# EAGLE library part TDA8752 (library kamiki)
Triple high speed Analog-to-Digital Converter
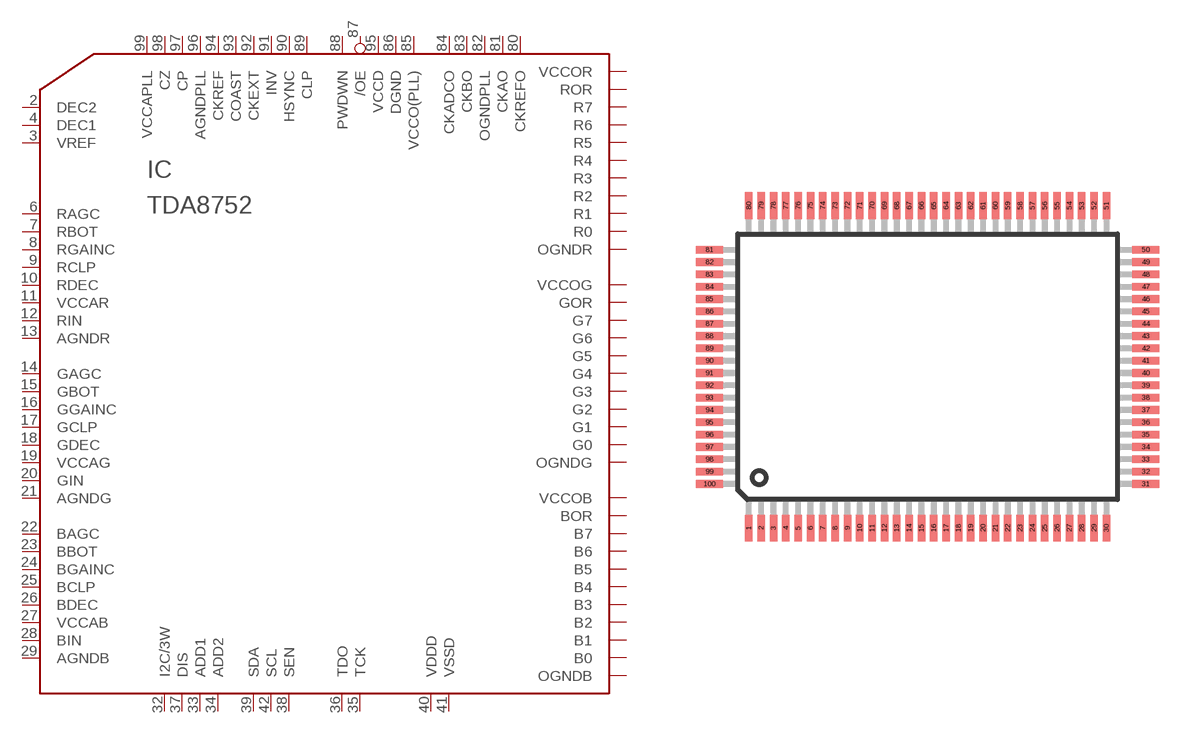
[diagram p28: symbol with the pads of QFP100_SOT317; footprint QFP100_SOT317]

Designator prefix IC

## TDA8752  [QFP100_SOT317]
2  DEC2  pas
3  VREF  in
4  DEC1  pas
6  RAGC  out
7  RBOT  pas
8  RGAINC  pas
9  RCLP  pas
10  RDEC  pas
11  VCCAR  pwr
12  RIN  in
13  AGNDR  pwr
14  GAGC  out
15  GBOT  pas
16  GGAINC  pas
17  GCLP  pas
18  GDEC  pas
19  VCCAG  pwr
20  GIN  in
21  AGNDG  pwr
22  BAGC  out
23  BBOT  pas
24  BGAINC  pas
25  BCLP  pas
26  BDEC  pas
27  VCCAB  pwr
28  BIN  in
29  AGNDB  pwr
32  I2C/3W  in
33  ADD1  in
34  ADD2  in
35  TCK  in
36  TDO  in
37  DIS  in
38  SEN  in
39  SDA  pas
40  VDDD  pwr
41  VSSD  pwr
42  SCL  pas
45  ROR  out
46  GOR  out
47  BOR  out
48  OGNDB  pwr
49  B0  out
52  B1  out
53  B2  out
54  B3  out
55  B4  out
56  B5  out
57  B6  out
58  B7  out
59  VCCOB  pwr
60  OGNDG  pwr
61  G0  out
62  G1  out
63  G2  out
64  G3  out
65  G4  out
66  G5  out
67  G6  out
68  G7  out
69  VCCOG  pwr
70  OGNDR  pwr
71  R0  out
72  R1  out
73  R2  out
74  R3  out
75  R4  out
76  R5  out
77  R6  out
78  R7  out
79  VCCOR  pwr
80  CKREFO  out
81  CKAO  out
82  OGNDPLL  pwr
83  CKBO  out
84  CKADCO  out
85  VCCO(PLL)  pwr
86  DGND  pwr
87  /OE  in
88  PWDWN  in
89  CLP  in
90  HSYNC  in
91  INV  in
92  CKEXT  in
93  COAST  in
94  CKREF  in
95  VCCD  pwr
96  AGNDPLL  pwr
97  CP  pas
98  CZ  pas
99  VCCAPLL  pwr

## Footprint QFP100_SOT317 (pad centres in mm)
Plastic Quad Flat Package SOT317-1/-2/-3 SOT382-2 100 leads source: http://www.semiconductors.philips.com/ LQFP-MSQFP-QFP-SQFP-TQFP-REFLOW.pdf
smd 0.4 x 1.4: 1 -9.425,-8.5; 2 -8.775,-8.5; 3 -8.125,-8.5; 4 -7.475,-8.5; 5 -6.825,-8.5; 6 -6.175,-8.5; 7 -5.525,-8.5; 8 -4.875,-8.5; 9 -4.225,-8.5; 10 -3.575,-8.5; 11 -2.925,-8.5; 12 -2.275,-8.5; 13 -1.625,-8.5; 14 -0.975,-8.5; 15 -0.325,-8.5; 16 0.325,-8.5; 17 0.975,-8.5; 18 1.625,-8.5; 19 2.275,-8.5; 20 2.925,-8.5; 21 3.575,-8.5; 22 4.225,-8.5; 23 4.875,-8.5; 24 5.525,-8.5; 25 6.175,-8.5; 26 6.825,-8.5; 27 7.475,-8.5; 28 8.125,-8.5; 29 8.775,-8.5; 30 9.425,-8.5; 51 9.425,8.5; 52 8.775,8.5; 53 8.125,8.5; 54 7.475,8.5; 55 6.825,8.5; 56 6.175,8.5; 57 5.525,8.5; 58 4.875,8.5; 59 4.225,8.5; 60 3.575,8.5; 61 2.925,8.5; 62 2.275,8.5; 63 1.625,8.5; 64 0.975,8.5; 65 0.325,8.5; 66 -0.325,8.5; 67 -0.975,8.5; 68 -1.625,8.5; 69 -2.275,8.5; 70 -2.925,8.5; 71 -3.575,8.5; 72 -4.225,8.5; 73 -4.875,8.5; 74 -5.525,8.5; 75 -6.175,8.5; 76 -6.825,8.5; 77 -7.475,8.5; 78 -8.125,8.5; 79 -8.775,8.5; 80 -9.425,8.5
smd 1.4 x 0.4: 31 11.5,-6.175; 32 11.5,-5.525; 33 11.5,-4.875; 34 11.5,-4.225; 35 11.5,-3.575; 36 11.5,-2.925; 37 11.5,-2.275; 38 11.5,-1.625; 39 11.5,-0.975; 40 11.5,-0.325; 41 11.5,0.325; 42 11.5,0.975; 43 11.5,1.625; 44 11.5,2.275; 45 11.5,2.925; 46 11.5,3.575; 47 11.5,4.225; 48 11.5,4.875; 49 11.5,5.525; 50 11.5,6.175; 81 -11.5,6.175; 82 -11.5,5.525; 83 -11.5,4.875; 84 -11.5,4.225; 85 -11.5,3.575; 86 -11.5,2.925; 87 -11.5,2.275; 88 -11.5,1.625; 89 -11.5,0.975; 90 -11.5,0.325; 91 -11.5,-0.325; 92 -11.5,-0.975; 93 -11.5,-1.625; 94 -11.5,-2.275; 95 -11.5,-2.925; 96 -11.5,-3.575; 97 -11.5,-4.225; 98 -11.5,-4.875; 99 -11.5,-5.525; 100 -11.5,-6.175